# Altium footprint library WE-SI.PcbLib: 34 footprints (part 1 of 3)
Each footprint in its own frame and in the unit in brackets; x right, y up, seen from the top. Pads: shape width x height; smd on the part's side, far side on the other; paste and mask are expansions set on the pad; w line width, h text height; cw(c..) or ccw(c..) is an arc to the next point about the centre after c.
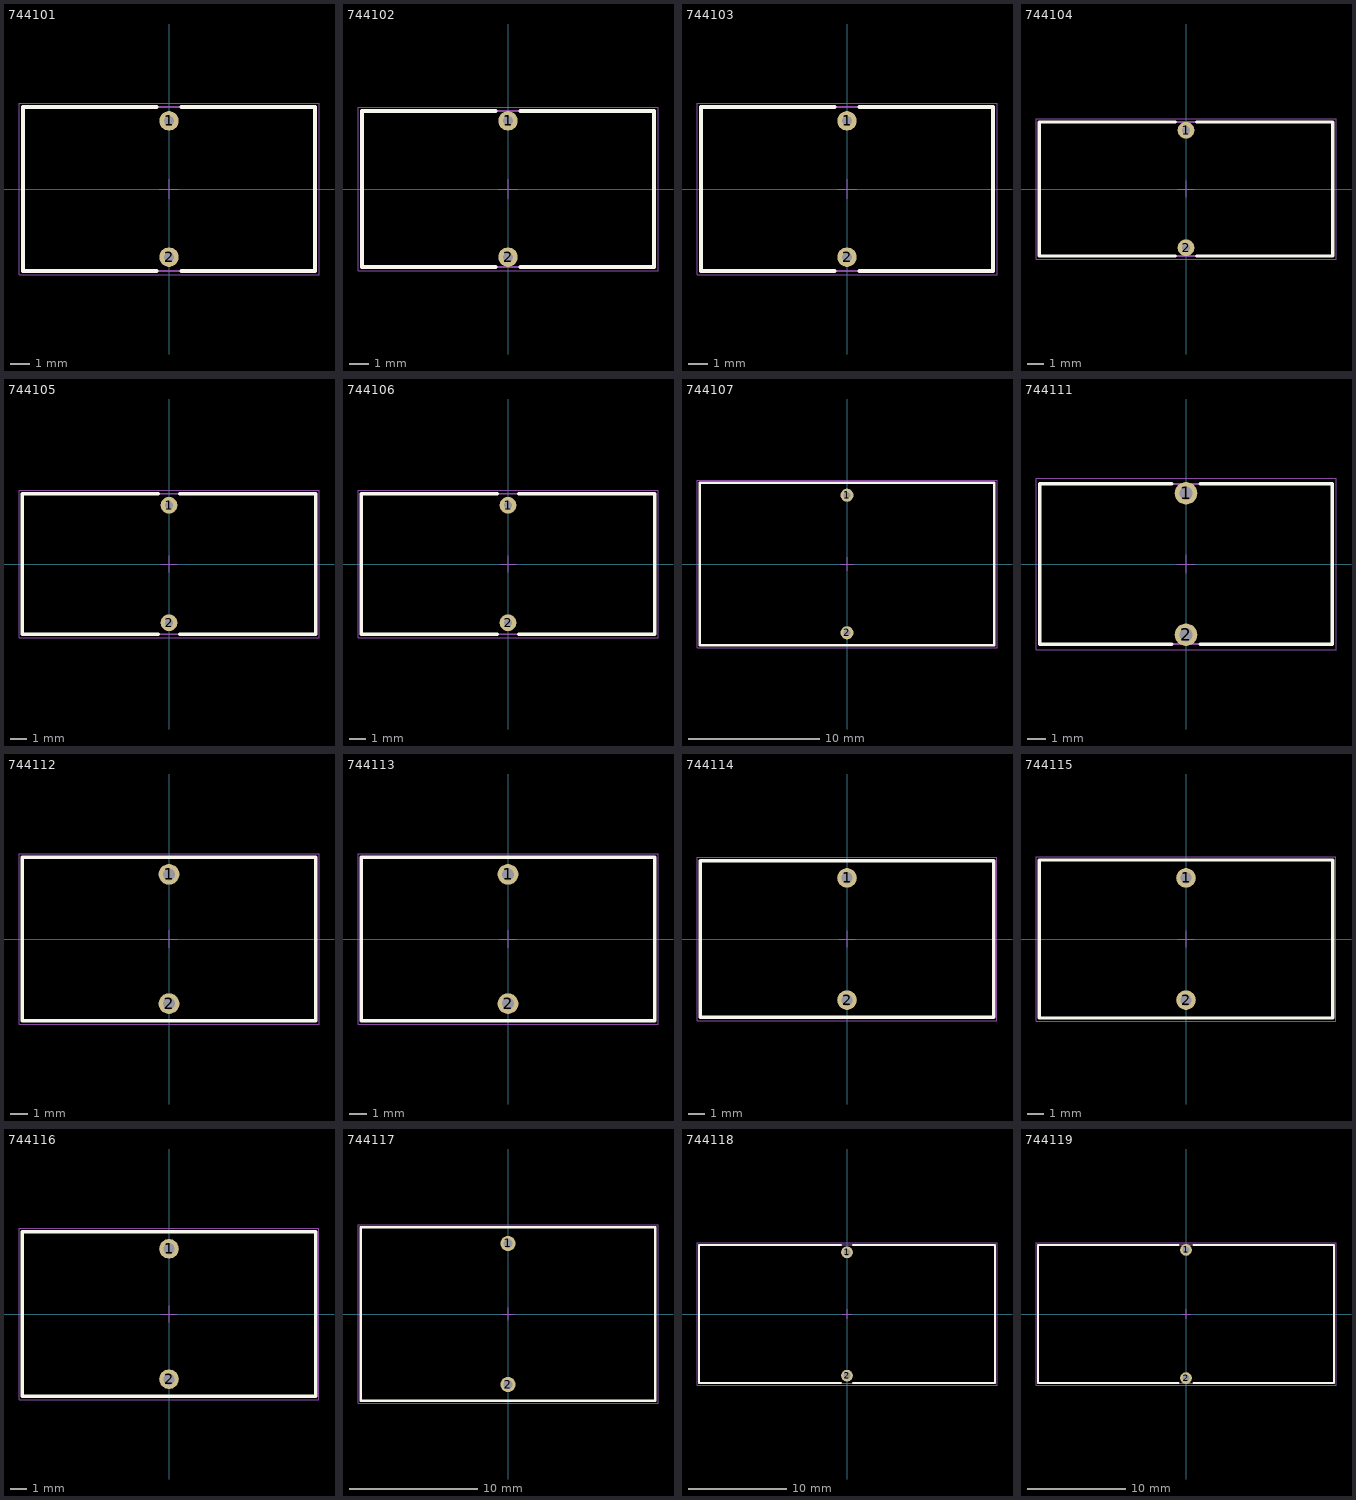
[diagram p0: the footprints below, top view; thin cyan lines are the x and y axes]

## 744101 [mm] "THT Leaded Toroidal Storage Choke, body 15x8.4mm"
height 15
pads (2):
  round 1 hole 0.5: 1(0,3.5) 2(0,-3.5)
Top Overlay:
  lines w0.2: -0.65,-4.2 -7.5,-4.2 -7.5,4.2 -0.65,4.2 ; 0.65,-4.2 7.5,-4.2 7.5,4.2 0.65,4.2
Top Designator:
  text ".Designator" at -7.498,-0.5 h1.5
Top Component Outline:
  lines w0.1: -7.5,-4.2 7.5,-4.2 7.5,4.2 -7.5,4.2 -7.5,-4.2
Top 3D Body:
  lines w0.1: -7.5,-4.2 -7.5,4.2 7.5,4.2 7.5,-4.2 -7.5,-4.2
Top Courtyard:
  lines w0.05: -0.5,0 0.5,0 ; 0,-0.5 0,0.5 ; -7.7,-4.4 7.7,-4.4 7.7,4.4 -7.7,4.4 -7.7,-4.4
3D body "744101.stp": height 13.46, standoff -11.96, extent -6.76,-3.65 6.759,3.65

## 744102 [mm] "THT Leaded Toroidal Storage Choke, body 15x8mm"
height 15
pads (2):
  round 1 hole 0.5: 1(0,3.5) 2(0,-3.5)
Top Overlay:
  lines w0.2: -0.65,-4 -7.5,-4 -7.5,4 -0.65,4 ; 0.65,-4 7.5,-4 7.5,4 0.65,4
Top Designator:
  text ".Designator" at -7.498,-0.5 h1.5
Top Component Outline:
  lines w0.1: -7.5,-4 7.5,-4 7.5,4 -7.5,4 -7.5,-4
Top 3D Body:
  lines w0.1: -7.5,-4 -7.5,4 7.5,4 7.5,-4 -7.5,-4
Top Courtyard:
  lines w0.05: -0.5,0 0.5,0 ; 0,-0.5 0,0.5 ; -7.7,-4.2 7.7,-4.2 7.7,4.2 -7.7,4.2 -7.7,-4.2
3D body "744102.stp": height 13.46, standoff -11.96, extent -6.76,-3.65 6.759,3.65

## 744103 [mm] "THT Leaded Toroidal Storage Choke, body 15x8.4mm"
height 15
pads (2):
  round 1 hole 0.5: 1(0,3.5) 2(0,-3.5)
Top Overlay:
  lines w0.2: -0.65,-4.2 -7.5,-4.2 -7.5,4.2 -0.65,4.2 ; 0.65,-4.2 7.5,-4.2 7.5,4.2 0.65,4.2
Top Designator:
  text ".Designator" at -7.498,-0.5 h1.5
Top Component Outline:
  lines w0.1: -7.5,-4.2 -7.5,4.2 7.5,4.2 7.5,-4.2 -7.5,-4.2
Top 3D Body:
  lines w0.1: -7.5,-4.2 7.5,-4.2 7.5,4.2 -7.5,4.2 -7.5,-4.2
Top Courtyard:
  lines w0.05: -0.5,0 0.5,0 ; 0,-0.5 0,0.5 ; -7.7,-4.4 -7.7,4.4 7.7,4.4 7.7,-4.4 -7.7,-4.4
3D body "744103.stp": height 13.46, standoff -11.96, extent -6.76,-3.65 6.759,3.65

## 744104 [mm] "THT Leaded Toroidal Storage Choke, body 17.5x8mm"
height 17.5
pads (2):
  round 1 hole 0.5: 1(0,3.5) 2(0,-3.5)
Top Overlay:
  lines w0.2: -0.65,-4 -8.75,-4 -8.75,4 -0.65,4 ; 0.65,-4 8.75,-4 8.75,4 0.65,4
Top Designator:
  text ".Designator" at -7.498,-0.5 h1.5
Top Component Outline:
  lines w0.1: -8.75,-4 8.75,-4 8.75,4 -8.75,4 -8.75,-4
Top 3D Body:
  lines w0.1: -8.75,-4 -8.75,4 8.75,4 8.75,-4 -8.75,-4
Top Courtyard:
  lines w0.05: -0.5,0 0.5,0 ; 0,-0.5 0,0.5 ; -8.95,-4.2 8.95,-4.2 8.95,4.2 -8.95,4.2 -8.95,-4.2
3D body "744104.stp": height 15.96, standoff -11.94, extent -8.009,-3.65 8.009,3.65

## 744105 [mm] "THT Leaded Toroidal Storage Choke, body 17.5x8.4mm"
height 17.5
pads (2):
  round 1 hole 0.5: 1(0,3.5) 2(0,-3.5)
Top Overlay:
  lines w0.2: -0.65,-4.2 -8.75,-4.2 -8.75,4.2 -0.65,4.2 ; 0.65,-4.2 8.75,-4.2 8.75,4.2 0.65,4.2
Top Designator:
  text ".Designator" at -7.498,-0.5 h1.5
Top Component Outline:
  lines w0.1: -8.75,-4.2 -8.75,4.2 8.75,4.2 8.75,-4.2 -8.75,-4.2
Top 3D Body:
  lines w0.1: -8.75,-4.2 8.75,-4.2 8.75,4.2 -8.75,4.2 -8.75,-4.2
Top Courtyard:
  lines w0.05: -0.5,0 0.5,0 ; 0,-0.5 0,0.5 ; -8.95,-4.4 -8.95,4.4 8.95,4.4 8.95,-4.4 -8.95,-4.4
3D body "744105.stp": height 15.96, standoff -11.94, extent -8.009,-3.65 8.009,3.65

## 744106 [mm] "THT Leaded Toroidal Storage Choke, body 17.5x8.4mm"
height 17.5
pads (2):
  round 1 hole 0.5: 1(0,3.5) 2(0,-3.5)
Top Overlay:
  lines w0.2: -0.65,-4.2 -8.75,-4.2 -8.75,4.2 -0.65,4.2 ; 0.65,-4.2 8.75,-4.2 8.75,4.2 0.65,4.2
Top Designator:
  text ".Designator" at -7.498,-0.5 h1.5
Top Component Outline:
  lines w0.1: -8.75,-4.2 8.75,-4.2 8.75,4.2 -8.75,4.2 -8.75,-4.2
Top 3D Body:
  lines w0.1: -8.75,-4.2 -8.75,4.2 8.75,4.2 8.75,-4.2 -8.75,-4.2
Top Courtyard:
  lines w0.05: -0.5,0 0.5,0 ; 0,-0.5 0,0.5 ; -8.95,-4.4 8.95,-4.4 8.95,4.4 -8.95,4.4 -8.95,-4.4
3D body "744106.stp": height 15.96, standoff -11.94, extent -8.009,-3.65 8.009,3.65

## 744107 [mm] "THT Leaded Toroidal Storage Choke, body 22.5x12.4mm"
height 22.5
pads (2):
  round 1 hole 0.5: 1(0,5.25) 2(0,-5.25)
Top Overlay:
  lines w0.2: -11.25,-6.2 -11.25,6.2 11.25,6.2 11.25,-6.2 -11.25,-6.2
Top Designator:
  text ".Designator" at -7.498,-0.5 h1.5
Top Component Outline:
  lines w0.1: -11.25,-6.2 11.25,-6.2 11.25,6.2 -11.25,6.2 -11.25,-6.2
Top 3D Body:
  lines w0.1: -11.25,-6.2 -11.25,6.2 11.25,6.2 11.25,-6.2 -11.25,-6.2
Top Courtyard:
  lines w0.05: -0.5,0 0.5,0 ; 0,-0.5 0,0.5 ; -11.45,-6.4 11.45,-6.4 11.45,6.4 -11.45,6.4 -11.45,-6.4
3D body "744107.stp": height 20.98, standoff -11.92, extent -10.53,-5.41 10.529,5.41

## 744111 [mm] "THT Leaded Toroidal Storage Choke, body 15.5x8.5mm"
height 15.5
pads (2):
  round 1.2 hole 0.7: 1(0,3.75) 2(0,-3.75)
Top Overlay:
  lines w0.2: -0.75,-4.25 -7.75,-4.25 -7.75,4.25 -0.75,4.25 ; 0.75,-4.25 7.75,-4.25 7.75,4.25 0.75,4.25
Top Designator:
  text ".Designator" at -7.498,-0.5 h1.5
Top Component Outline:
  lines w0.1: -7.75,-4.25 -7.75,4.25 7.75,4.25 7.75,-4.25 -7.75,-4.25
Top 3D Body:
  lines w0.1: -7.75,-4.25 7.75,-4.25 7.75,4.25 -7.75,4.25 -7.75,-4.25
Top Courtyard:
  lines w0.05: -0.5,0 0.5,0 ; 0,-0.5 0,0.5 ; -7.95,-4.55 -7.95,4.55 7.95,4.55 7.95,-4.55 -7.95,-4.55
3D body "744111.stp": height 13.76, standoff -11.93, extent -6.959,-4 6.959,4

## 744112 [mm] "THT Leaded Toroidal Storage Choke, body 17x9.5mm"
height 17
pads (2):
  round 1.2 hole 0.7: 1(0,3.75) 2(0,-3.75)
Top Overlay:
  lines w0.2: -8.5,-4.75 8.5,-4.75 8.5,4.75 -8.5,4.75 -8.5,-4.75
Top Designator:
  text ".Designator" at -7.498,-0.5 h1.5
Top Component Outline:
  lines w0.1: -8.5,-4.75 8.5,-4.75 8.5,4.75 -8.5,4.75 -8.5,-4.75
Top 3D Body:
  lines w0.1: -8.5,-4.75 -8.5,4.75 8.5,4.75 8.5,-4.75 -8.5,-4.75
Top Courtyard:
  lines w0.05: -0.5,0 0.5,0 ; 0,-0.5 0,0.5 ; -8.7,-4.95 8.7,-4.95 8.7,4.95 -8.7,4.95 -8.7,-4.95
3D body "744112.stp": height 13.76, standoff -11.93, extent -6.959,-4 6.959,4

## 744113 [mm] "THT Leaded Toroidal Storage Choke, body 17x9.5mm"
height 17
pads (2):
  round 1.2 hole 0.7: 1(0,3.75) 2(0,-3.75)
Top Overlay:
  lines w0.2: -8.5,-4.75 -8.5,4.75 8.5,4.75 8.5,-4.75 -8.5,-4.75
Top Designator:
  text ".Designator" at -7.498,-0.5 h1.5
Top Component Outline:
  lines w0.1: -8.5,-4.75 -8.5,4.75 8.5,4.75 8.5,-4.75 -8.5,-4.75
Top 3D Body:
  lines w0.1: -8.5,-4.75 8.5,-4.75 8.5,4.75 -8.5,4.75 -8.5,-4.75
Top Courtyard:
  lines w0.05: -0.5,0 0.5,0 ; 0,-0.5 0,0.5 ; -8.7,-4.95 -8.7,4.95 8.7,4.95 8.7,-4.95 -8.7,-4.95
3D body "744113.stp": height 13.76, standoff -11.93, extent -6.959,-4 6.959,4

## 744114 [mm] "THT Leaded Toroidal Storage Choke, body 18x9.6mm"
height 18
pads (2):
  round 1.2 hole 0.7: 1(0,3.75) 2(0,-3.75)
Top Overlay:
  lines w0.2: -9,-4.8 9,-4.8 9,4.8 -9,4.8 -9,-4.8
Top Designator:
  text ".Designator" at -7.498,-0.5 h1.5
Top Component Outline:
  lines w0.1: -9,-4.8 9,-4.8 9,4.8 -9,4.8 -9,-4.8
Top 3D Body:
  lines w0.1: -9,-4.8 -9,4.8 9,4.8 9,-4.8 -9,-4.8
Top Courtyard:
  lines w0.05: -0.5,0 0.5,0 ; 0,-0.5 0,0.5 ; -9.2,-5 9.2,-5 9.2,5 -9.2,5 -9.2,-5
3D body "744114.stp": height 16.21, standoff -19.94, extent -8.21,-4 8.208,4

## 744115 [mm] "THT Leaded Toroidal Storage Choke, body 18x9.7mm"
height 18
pads (2):
  round 1.2 hole 0.7: 1(0,3.75) 2(0,-3.75)
Top Overlay:
  lines w0.2: -9,-4.85 -9,4.85 9,4.85 9,-4.85 -9,-4.85
Top Designator:
  text ".Designator" at -7.498,-0.5 h1.5
Top Component Outline:
  lines w0.1: -9,-4.85 -9,4.85 9,4.85 9,-4.85 -9,-4.85
Top 3D Body:
  lines w0.1: -9,-4.85 9,-4.85 9,4.85 -9,4.85 -9,-4.85
Top Courtyard:
  lines w0.05: -0.5,0 0.5,0 ; 0,-0.5 0,0.5 ; -9.2,-5.05 -9.2,5.05 9.2,5.05 9.2,-5.05 -9.2,-5.05
3D body "744115.stp": height 16.21, standoff -19.94, extent -8.21,-4 8.208,4

## 744116 [mm] "THT Leaded Toroidal Storage Choke, body 18x10.1mm"
height 18
pads (2):
  round 1.2 hole 0.7: 1(0,4) 2(0,-4)
Top Overlay:
  lines w0.2: -9,-5.05 9,-5.05 9,5.05 -9,5.05 -9,-5.05
Top Designator:
  text ".Designator" at -7.498,-0.5 h1.5
Top Component Outline:
  lines w0.1: -9,-5.05 -9,5.05 9,5.05 9,-5.05 -9,-5.05
Top 3D Body:
  lines w0.1: -9,-5.05 9,-5.05 9,5.05 -9,5.05 -9,-5.05
Top Courtyard:
  lines w0.05: -0.5,0 0.5,0 ; 0,-0.5 0,0.5 ; -9.2,-5.25 -9.2,5.25 9.2,5.25 9.2,-5.25 -9.2,-5.25
3D body "744116.stp": height 16.21, standoff -11.94, extent -8.21,-4.249 8.208,4.249

## 744117 [mm] "THT Leaded Toroidal Storage Choke, body 23x13.5mm"
height 23
pads (2):
  round 1.2 hole 0.7: 1(0,5.5) 2(0,-5.5)
Top Overlay:
  lines w0.2: -11.5,-6.75 -11.5,6.75 11.5,6.75 11.5,-6.75 -11.5,-6.75
Top Designator:
  text ".Designator" at -7.498,-0.5 h1.5
Top Component Outline:
  lines w0.1: -11.5,-6.75 -11.5,6.75 11.5,6.75 11.5,-6.75 -11.5,-6.75
Top 3D Body:
  lines w0.1: -11.5,-6.75 11.5,-6.75 11.5,6.75 -11.5,6.75 -11.5,-6.75
Top Courtyard:
  lines w0.05: -0.5,0 0.5,0 ; 0,-0.5 0,0.5 ; -11.7,-6.95 -11.7,6.95 11.7,6.95 11.7,-6.95 -11.7,-6.95
3D body "744117.stp": height 21.31, standoff -11.95, extent -10.71,-5.75 10.709,5.75

## 744118 [mm] "THT Leaded Toroidal Storage Choke, body 30x14mm"
height 30
pads (2):
  round 1.2 hole 0.7: 1(0,6.25) 2(0,-6.25)
Top Overlay:
  lines w0.2: -0.6,-7 -15,-7 -15,7 -0.6,7 ; 0.6,-7 15,-7 15,7 0.6,7
Top Designator:
  text ".Designator" at -7.498,-0.5 h1.5
Top Component Outline:
  lines w0.1: -15,-7 15,-7 15,7 -15,7 -15,-7
Top 3D Body:
  lines w0.1: -15,-7 -15,7 15,7 15,-7 -15,-7
Top Courtyard:
  lines w0.05: -0.5,0 0.5,0 ; 0,-0.5 0,0.5 ; -15.2,-7.2 15.2,-7.2 15.2,7.2 -15.2,7.2 -15.2,-7.2
3D body "744118.stp": height 27.96, standoff -11.95, extent -14.06,-6.499 14.059,6.499

## 744119 [mm] "THT Leaded Toroidal Storage Choke, body 30x14mm"
height 30
pads (2):
  round 1.2 hole 0.7: 1(0,6.5) 2(0,-6.5)
Top Overlay:
  lines w0.2: -0.75,-7 -15,-7 -15,7 -0.75,7 ; 0.75,-7 15,-7 15,7 0.75,7
Top Designator:
  text ".Designator" at -7.498,-0.5 h1.5
Top Component Outline:
  lines w0.1: -15,-7 -15,7 15,7 15,-7 -15,-7
Top 3D Body:
  lines w0.1: -15,-7 15,-7 15,7 -15,7 -15,-7
Top Courtyard:
  lines w0.05: -0.5,0 0.5,0 ; 0,-0.5 0,0.5 ; -15.2,-7.2 -15.2,7.2 15.2,7.2 15.2,-7.2 -15.2,-7.2
3D body "744119.stp": height 27.96, standoff -11.95, extent -14.06,-6.749 14.059,6.749